# Altium footprint library BlinkBoard.PcbLib: 14 footprints
Each footprint in its own frame and in the unit in brackets; x right, y up, seen from the top. Pads: shape width x height; smd on the part's side, far side on the other; paste and mask are expansions set on the pad; w line width, h text height; cw(c..) or ccw(c..) is an arc to the next point about the centre after c.
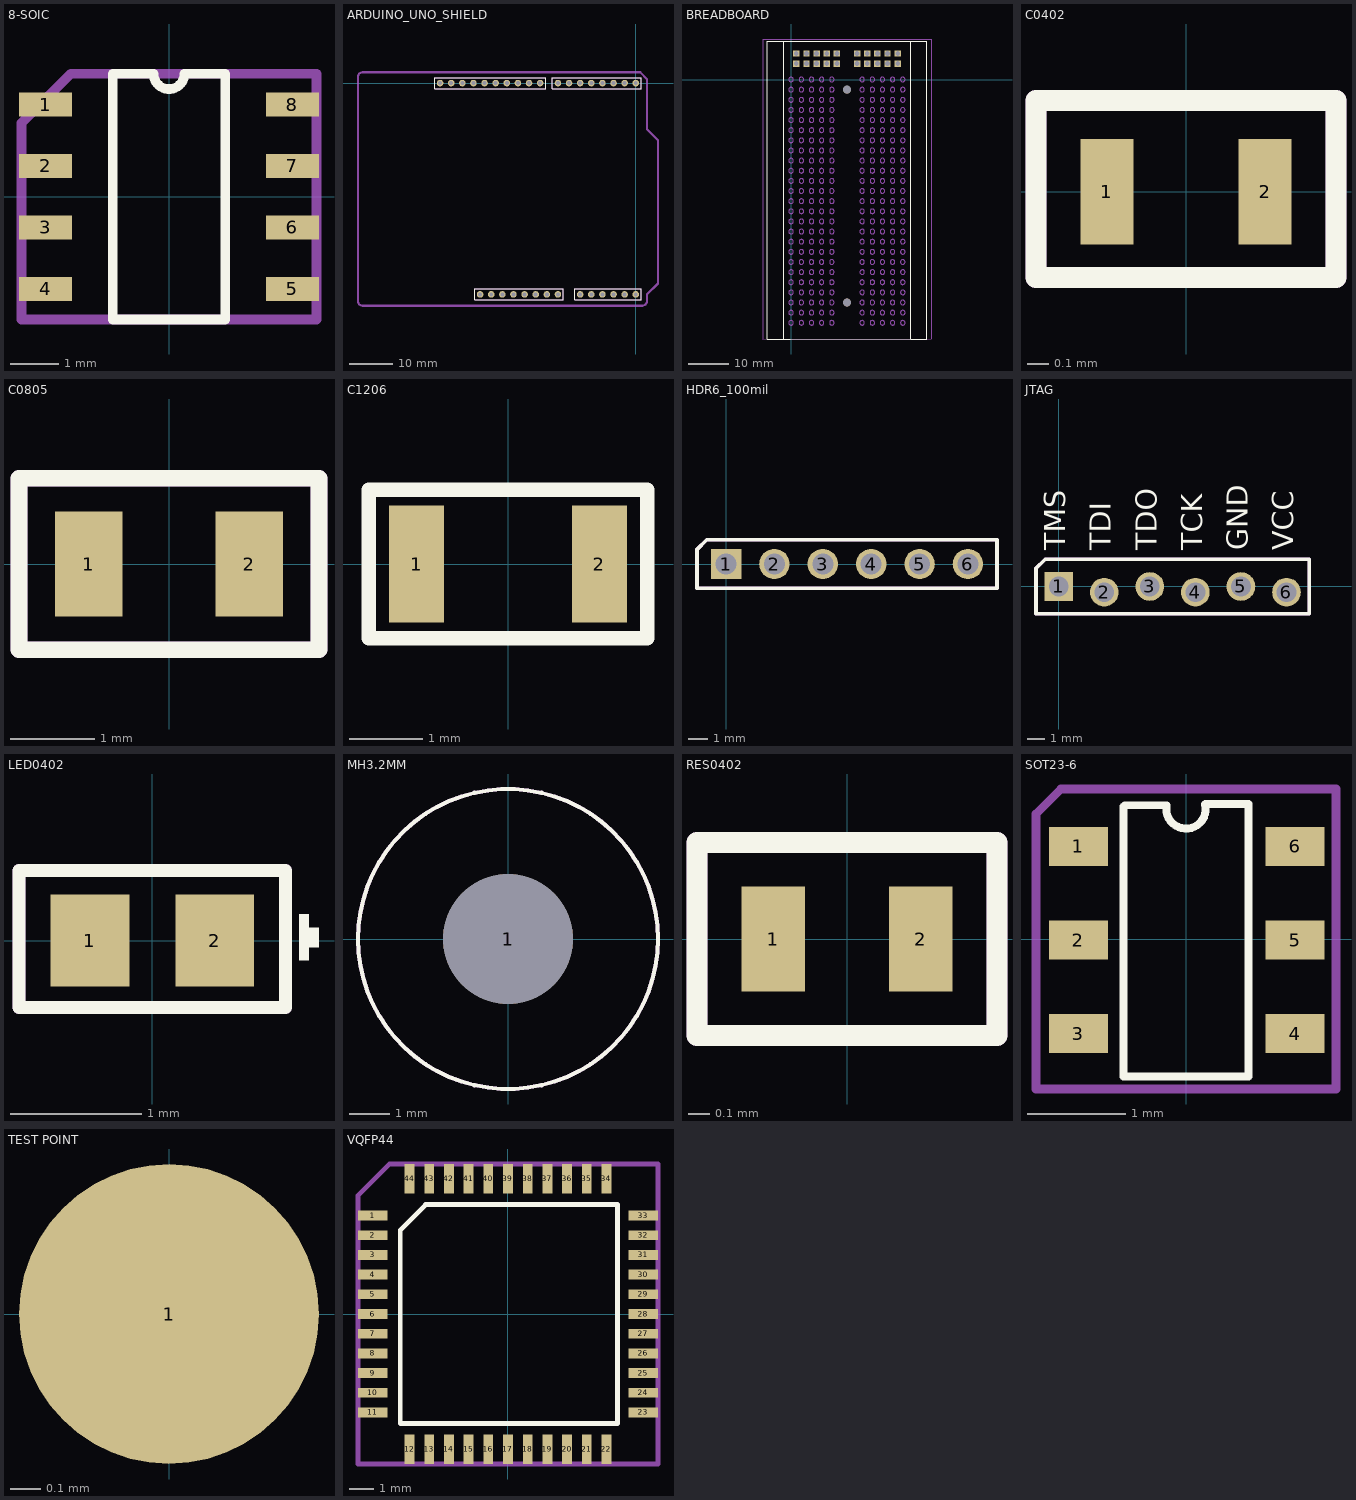
[diagram p0: the footprints below, top view; thin cyan lines are the x and y axes]

## 8-SOIC [mm]
pads (8):
  rect 1.1x0.5 smd mask+0.02: 1(-2.55,1.905) 2(-2.55,0.635) 3(-2.55,-0.635) 4(-2.55,-1.905) 5(2.55,-1.905) 6(2.55,-0.635) 7(2.55,0.635) 8(2.55,1.905)
Top Overlay:
  lines w0.2: -1.165,-2.54 1.165,-2.54 1.165,2.54 0.318,2.54 cw(c0,2.54) -0.318,2.54 -1.165,2.54 -1.165,-2.54
Assembly:
  lines w0.2: -3.048,-2.54 3.048,-2.54 3.048,2.54 -2.032,2.54 -3.048,1.524 -3.048,-2.54
  text "'.Designator'" at -2.032,-1.016 h2
3D body "SOIC-8-1.STEP": height 1.75, standoff 0, extent -3,-2.45 3,2.45

## ARDUINO_UNO_SHIELD [mm]
pads (32):
  round 1.5 hole 0.9: 1(0,0) 2(-2.54,0) 3(-5.08,0) 4(-7.62,0) 5(-10.16,0) 6(-12.7,0) 7(-15.24,0) 8(-17.78,0) 9(-21.844,0) 10(-24.384,0) 11(-26.924,0) 12(-29.464,0) 13(-32.004,0) 14(-34.544,0) 15(-37.084,0) 16(-39.624,0) 17(0,-48.26) 18(-2.54,-48.26) 19(-5.08,-48.26) 20(-7.62,-48.26) 21(-10.16,-48.26) 22(-12.7,-48.26) 23(-17.78,-48.26) 24(-20.32,-48.26) 25(-22.86,-48.26) 26(-25.4,-48.26) 27(-27.94,-48.26) 28(-30.48,-48.26) 29(-33.02,-48.26) ""(-44.704,0) ""(-42.164,0) ""(-35.56,-48.26)
Top Overlay:
  lines w0.2: -45.974,-1.27 -45.974,1.27 -20.574,1.27 -20.574,-1.27 -22.479,-1.27 -45.974,-1.27 ; -36.83,-49.53 -36.83,-46.99 -16.51,-46.99 -16.51,-49.53 -36.83,-49.53 ; -19.05,-1.27 1.27,-1.27 1.27,1.27 -19.05,1.27 -19.05,-1.27 ; -13.97,-49.53 1.27,-49.53 1.27,-46.99 -13.97,-46.99 -13.97,-49.53
Assembly:
  circle w1: c0,0 r0.105
  lines w0.2: -45.974,-1.27 -20.574,-1.27 -20.574,1.27 -45.974,1.27 -45.974,-1.27 ; -36.83,-49.53 -16.51,-49.53 -16.51,-46.99 -36.83,-46.99 -36.83,-49.53 ; -19.05,-1.27 1.27,-1.27 1.27,1.27 -19.05,1.27 -19.05,-1.27 ; -13.97,-49.53 1.27,-49.53 1.27,-46.99 -13.97,-46.99 -13.97,-49.53
  lines w0.5: -63.456,-49.842 -63.456,1.448 -63.413,1.723 -63.329,1.955 -63.159,2.167 -62.948,2.315 -62.715,2.421 -62.461,2.463 1.017,2.463 2.54,0.94 2.54,-10.486 5.079,-13.025 5.079,-45.759 2.54,-48.298 2.54,-49.842 2.498,-50.096 2.413,-50.329 2.244,-50.54 2.032,-50.71 1.799,-50.794 1.546,-50.837 -62.461,-50.837 -62.715,-50.794 -62.948,-50.71 -63.159,-50.54 -63.329,-50.329 -63.413,-50.096 -63.456,-49.842

## BREADBOARD [mm]
pads (22):
  rect 1.6x1.6 hole 1.2: 1(1.321,6.54) 1(3.861,6.54) 1(6.401,6.54) 1(8.941,6.54) 1(11.481,6.54) 1(16.561,6.54) 1(19.101,6.54) 1(21.641,6.54) 1(24.181,6.54) 1(26.721,6.54) 2(1.321,4) 2(3.861,4) 2(6.401,4) 2(8.941,4) 2(11.481,4) 2(16.561,4) 2(19.101,4) 2(21.641,4) 2(24.181,4) 2(26.721,4)
  round 2 hole 2 unplated: ""(14.021,-55.88) ""(14.021,-2.54)
Top Overlay:
  lines w0.2: -1.949,-65.024 -1.949,9.652 ; -1.949,9.652 30.051,9.652 ; -1.949,9.652 -5.949,9.652 -5.949,-65.024 -0.235,-65.024 30.051,-65.024 ; 30.051,-65.024 30.051,9.652 ; 30.051,-65.024 34.051,-65.024 34.051,9.652 30.051,9.652
Assembly:
  drawing of 254 lines, arcs and shapes, not listed
  text "'.Designator'" at 11.989,-30.798 h3
3D body "20200625_basic_thin_with LED(25)_ground change.stp": height 8.31, standoff 0.01, extent -6.979,-64.978 35.021,9.992

## C0402 [mm]
pads (2):
  rect 0.25x0.5 smd mask+0.02: 1(-0.375,0) 2(0.375,0)
Top Overlay:
  lines w0.1: -0.711,-0.406 0.711,-0.406 0.711,0.432 -0.711,0.432 -0.711,-0.406
Assembly:
  lines w0.1: -0.711,-0.406 0.711,-0.406 0.711,0.432 -0.711,0.432 -0.711,-0.406
  text "'.Designator'" at -0.889,-0.229 h0.5
3D body "User Library-d0402h025.step": height 0.25, standoff 0, extent -0.5,-0.25 0.5,0.25

## C0805 [mm]
pads (2):
  rect 0.8x1.25 smd mask+0.02: 1(-0.95,0) 2(0.95,0)
Top Overlay:
  lines w0.2: -1.778,-1.016 1.778,-1.016 1.778,1.016 -1.778,1.016 -1.778,-1.016
Assembly:
  lines w0.2: -1.778,-1.016 -1.778,1.016 1.778,1.016 1.778,-1.016 -1.778,-1.016
  text "'.Designator'" at -0.889,-0.254 h0.5
3D body "C805.STEP": height 0.74, standoff -0.02, extent -1,-0.655 1,0.655

## C1206 [mm]
pads (2):
  rect 0.75x1.6 smd mask+0.02: 1(-1.25,0) 2(1.25,0)
Top Overlay:
  lines w0.2: -1.905,-1.016 1.905,-1.016 1.905,1.016 -1.905,1.016 -1.905,-1.016
Assembly:
  lines w0.1: -1.905,-1.016 -1.905,1.016 1.905,1.016 1.905,-1.016 -1.905,-1.016
  text "'.Designator'" at -0.914,-0.254 h0.5
3D body "CircuitWorks-CAPACITOR 1206.STEP": height 1.57, standoff 0.01, extent -1.6,-0.83 1.6,0.83

## HDR6_100mil [mm]
pads (6):
  rect 1.6x1.6 hole 1.1: 1(0,0)
  round 1.6 hole 1.1: 2(2.54,0) 3(5.08,0) 4(7.62,0) 5(10.16,0) 6(12.7,0)
Top Overlay:
  lines w0.2: -1.524,-1.27 14.224,-1.27 14.224,1.27 -1.016,1.27 -1.524,0.762 -1.524,-1.27
Assembly:
  lines w0.2: -1.524,-1.27 -1.524,0.762 -1.016,1.27 14.224,1.27 14.224,-1.27 -1.524,-1.27
  text "'.Designator'" at -0.762,-1.016 h2
3D body "User Library-Header_Fem_1X6.step": height 8.51, standoff -3.19, extent -1.524,-1.27 14.216,1.27

## JTAG [mm]
pads (6):
  rect 1.6x1.6 hole 1.1: 1(0,0)
  round 1.6 hole 1.1: 2(2.54,-0.318) 3(5.08,0) 4(7.62,-0.318) 5(10.16,0) 6(12.7,-0.318)
Top Overlay:
  lines w0.2: -1.27,-1.524 -1.27,0 -1.27,1.016 -0.762,1.524 13.97,1.524 13.97,-1.524 -1.27,-1.524
  text "VCC" at 13.462,2.032 h2
  text "GND" at 10.922,2.032 h2
  text "TCK" at 8.382,2.032 h2
  text "TDO" at 5.842,2.032 h2
  text "TDI" at 3.302,2.032 h2
  text "TMS" at 0.762,2.032 h2
Assembly:
  lines w0.2: -1.27,-1.524 -1.27,0 -1.27,1.016 -0.762,1.524 13.97,1.524 13.97,-1.524 -1.27,-1.524
  text "'.Designator'" at -0.762,-1.016 h2

## LED0402 [mm]
pads (2):
  rect 0.6x0.7 smd mask+0.02: 1(-0.475,0) 2(0.475,0)
Top Overlay:
  rectangle: 1.168,-0.051 1.27,0.102
  rectangle: 1.118,-0.152 1.194,0.203
  lines w0.1: -1.016,-0.508 1.016,-0.508 1.016,0.533 -1.016,0.533 -1.016,-0.508
Assembly:
  lines w0.1: -1.016,-0.508 -1.016,0.533 1.016,0.533 1.016,-0.508 -1.016,-0.508
  text "'.Designator'" at -0.889,-0.254 h0.5
3D body "VLMx15xx_0402.stp": height 0.32, standoff -0.03, extent -0.5,-0.25 0.5,0.25

## MH3.2MM [mm] "MHNP 3.2mm"
pads (1):
  round 3.2 hole 3.2 unplated: 1(0,0)
Top Overlay:
  circle w0.1: c0,0 r3.7
3D:
  circle w0.1: c0,0 r3.7

## RES0402 [mm]
pads (2):
  rect 0.3x0.5 smd mask+0.02: 1(-0.35,0) 2(0.35,0)
Top Overlay:
  lines w0.1: -0.711,-0.457 0.711,-0.457 0.711,0.457 -0.711,0.457 -0.711,-0.457
Assembly:
  lines w0.1: -0.711,-0.457 0.711,-0.457 0.711,0.457 -0.711,0.457 -0.711,-0.457
  text "'.Designator'" at -0.889,-0.254 h0.5
3D body "res0402.step": height 0.25, standoff 0, extent -0.5,-0.25 0.5,0.25

## SOT23-6 [mm]
pads (6):
  rect 0.6x0.4 smd mask+0.02: 1(-1.092,0.94) 2(-1.092,-0.01) 3(-1.092,-0.96) 4(1.108,-0.96) 5(1.108,-0.01) 6(1.108,0.94)
Top Overlay:
  lines w0.08: -0.635,1.346 -0.635,-1.397 0.635,-1.397 0.635,1.372 0.196,1.372 ; -0.622,1.359 -0.196,1.359 ccw(c0,1.321) 0.194,1.369
Assembly:
  lines w0.09: -1.524,-1.524 -1.524,1.27 -1.27,1.524 1.524,1.524 1.524,-1.524 -1.524,-1.524
  text "'.Designator'" at -1.27,-1.016 h2
3D body "User Library-SOT23-6-1.step": height 1.1, standoff 0.01, extent -1.156,-1.422 1.27,1.372

## TEST POINT [mm]
pads (1):
  round 1 smd mask+0.02: 1(0,0)

## VQFP44 [mm]
pads (44):
  rect 1.2x0.4 smd mask+0.02: 1(-5.5,4) 2(-5.5,3.2) 3(-5.5,2.4) 4(-5.5,1.6) 5(-5.5,0.8) 6(-5.5,0) 7(-5.5,-0.8) 8(-5.5,-1.6) 9(-5.5,-2.4) 10(-5.5,-3.2) 11(-5.5,-4) 23(5.5,-4) 24(5.5,-3.2) 25(5.5,-2.4) 26(5.5,-1.6) 27(5.5,-0.8) 28(5.5,0) 29(5.5,0.8) 30(5.5,1.6) 31(5.5,2.4) 32(5.5,3.2) 33(5.5,4)
  rect 0.4x1.2 smd mask+0.02: 12(-4,-5.5) 13(-3.2,-5.5) 14(-2.4,-5.5) 15(-1.6,-5.5) 16(-0.8,-5.5) 17(0,-5.5) 18(0.8,-5.5) 19(1.6,-5.5) 20(2.4,-5.5) 21(3.2,-5.5) 22(4,-5.5) 34(4,5.5) 35(3.2,5.5) 36(2.4,5.5) 37(1.6,5.5) 38(0.8,5.5) 39(0,5.5) 40(-0.8,5.5) 41(-1.6,5.5) 42(-2.4,5.5) 43(-3.2,5.5) 44(-4,5.5)
Top Overlay:
  lines w0.2: -4.382,-4.445 4.445,-4.445 4.445,4.445 -3.347,4.445 -4.382,3.41 -4.382,-4.445
Assembly:
  lines w0.2: -6.096,-6.096 6.096,-6.096 6.096,6.096 -4.826,6.096 -6.096,4.826 -6.096,-6.096
  text "'.Designator'" at -2.032,-1.016 h2
3D body "User Library-IPC QFP-full.step": height 1.35, standoff 0, extent -6.01,-6.01 6.011,6.011